# Altium integrated library MicroseModulos.IntLib: 2 symbols
Pins are listed as number, name and electrical type; pins without a type are passive.

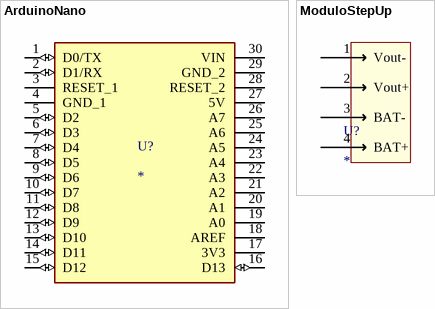
[diagram p0: symbols ArduinoNano to ModuloStepUp]

## ArduinoNano
designator U?
Small, complete, and breadboard-friendly board based on the ATmega328 (Arduino Nano 3.x).; MP: A000005; Check_prices: https://www.snapeda.com/parts/A000005/Arduino/view-part/?ref=eda; Value: *; Availability: In Stock; Price: None; Package: Non-Standard Arduino; SnapEDA_Link: https://www.snapeda.com/parts/A000005/Arduino/view-part/?ref=snap; Purchase-URL: https://pricing.snapeda.com/search/part/A000005/?ref=eda; MF: Arduino
footprint ArduinoNano
pins: 1 D0/TX (io), 2 D1/RX (io), 3 RESET_1, 4 GND_1 (power), 5 D2 (io), 6 D3 (io), 7 D4 (io), 8 D5 (io), 9 D6 (io), 10 D7 (io), 11 D8 (io), 12 D9 (io), 13 D10 (io), 14 D11 (io), 15 D12 (io), 16 D13 (io), 17 3V3 (power), 18 AREF, 19 A0, 20 A1, 21 A2, 22 A3, 23 A4, 24 A5, 25 A6, 26 A7, 27 5V (power), 28 RESET_2, 29 GND_2 (power), 30 VIN (power)

## ModuloStepUp
designator U?
footprint StepUp
pins: 1 Vout-, 2 Vout+, 3 BAT-, 4 BAT+